# Altium footprint library 1571983-4.PcbLib: 1 footprints
Each footprint in its own frame and in the unit in brackets; x right, y up, seen from the top. Pads: shape width x height; smd on the part's side, far side on the other; paste and mask are expansions set on the pad; w line width, h text height; cw(c..) or ccw(c..) is an arc to the next point about the centre after c.
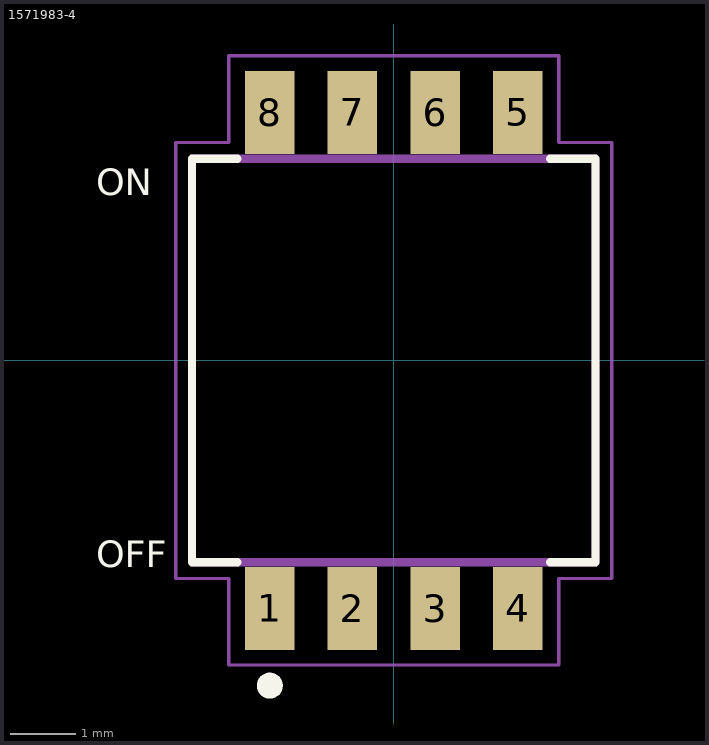
[diagram p0: the footprint, top view; thin cyan lines are the x and y axes]

## 1571983-4 [mm]
pads (8):
  rect 0.76x1.27 smd: 1(-1.905,-3.81) 2(-0.635,-3.81) 3(0.635,-3.81) 4(1.905,-3.81) 5(1.905,3.81) 6(0.635,3.81) 7(-0.635,3.81) 8(-1.905,3.81)
Top Overlay:
  circle w0.2: c-1.905,-4.996 r0.1
  lines w0.127: -2.4,-3.1 -3.1,-3.1 -3.1,3.1 -2.4,3.1 ; 2.4,-3.1 3.1,-3.1 3.1,3.1 2.4,3.1
  text "OFF" at -4.572,-3.175 h0.41
  text "ON" at -4.572,2.54 h0.41
Top 3D Body:
  lines w0.127: -3.1,-3.1 3.1,-3.1 3.1,3.1 -3.1,3.1 -3.1,-3.1
Top Courtyard:
  lines w0.05: -3.35,-3.35 -3.35,3.35 -2.535,3.35 -2.535,4.68 2.535,4.68 2.535,3.35 3.35,3.35 3.35,-3.35 2.535,-3.35 2.535,-4.68 -2.535,-4.68 -2.535,-3.35 -3.35,-3.35
3D body "1571983-4.step": height 2.31, standoff 0, extent -3.1,-4.065 3.1,4.065